# Altium footprint library stm32底盘_PCB_V1.0.PcbLib: 18 footprints (part 1 of 2)
Each footprint in its own frame and in the unit in brackets; x right, y up, seen from the top. Pads: shape width x height; smd on the part's side, far side on the other; paste and mask are expansions set on the pad; w line width, h text height; cw(c..) or ccw(c..) is an arc to the next point about the centre after c.
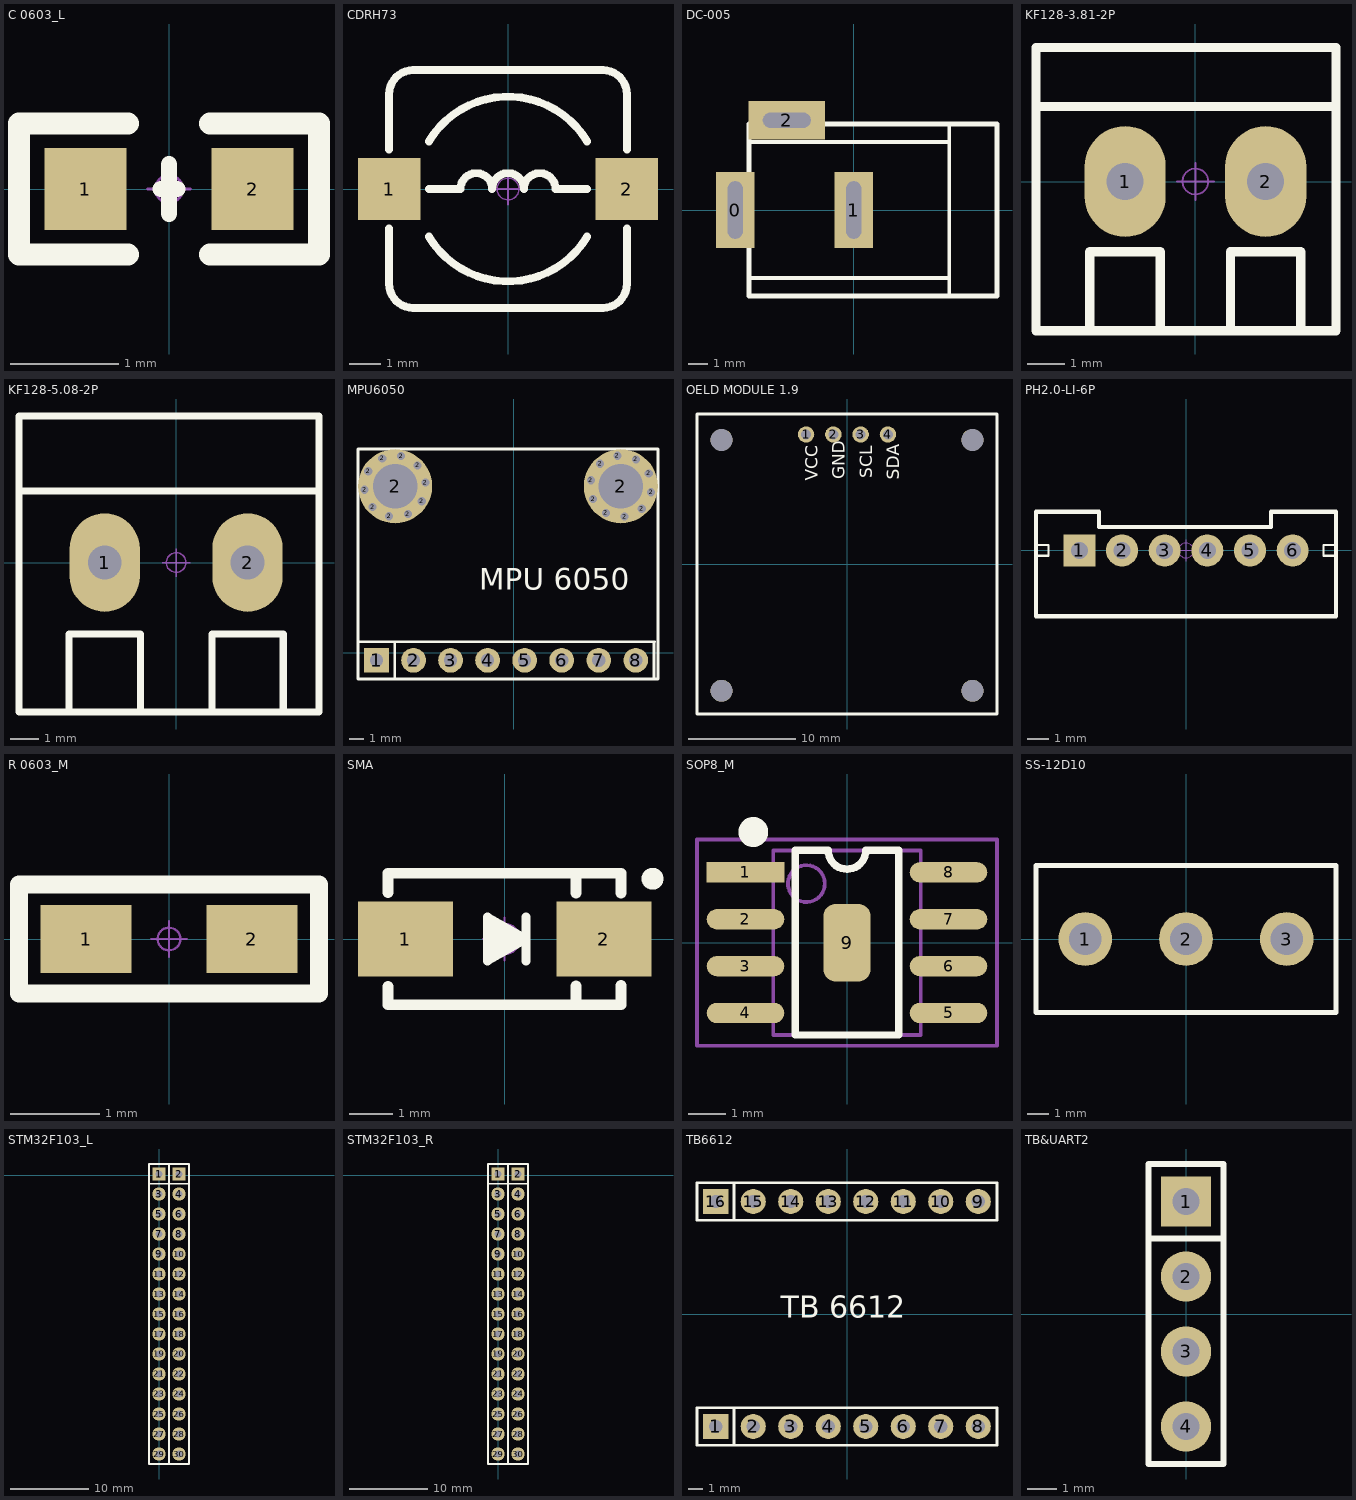
[diagram p0: the footprints below, top view; thin cyan lines are the x and y axes]

## C 0603_L [mil] "无极性贴片电容"
pads (2):
  rect 30x30 smd: 1(-30.59,0) 2(30.59,0)
Top Overlay:
  lines w6: -3,0 0,0 3,0 ; 0,-9 0,9
  lines w8: -15,-24 -54.82,-24 -54.82,24 -15,24 ; 15,-24 54.82,-24 54.82,24 15,24
Mechanical 15:
  circle w1: c0,0 r5
  lines w1: -7.87,0 7.87,0 ; 0,-7.87 0,7.87
3D body "C 0603.STEP": height 31.89, standoff -0.39, extent -31.5,-16.14 31.5,16.14

## CDRH73 [mm] "7.3*7.3*3.4mm（长宽高）"
pads (2):
  rect 2x2 smd: 1(-3.81,0) 2(3.81,0)
Top Overlay:
  lines w0.254: -3.81,-1.27 -3.81,-3.048 ccw(c-3.048,-3.048) -3.048,-3.81 3.048,-3.81 ccw(c3.048,-3.048) 3.81,-3.048 3.81,-1.27 ; -3.81,1.27 -3.81,3.048 cw(c-3.048,3.048) -3.048,3.81 3.048,3.81 cw(c3.048,3.048) 3.81,3.048 3.81,1.27 ; -2.54,-1.524 ccw(c0,0) 2.54,-1.524 ; -2.54,0 -1.524,0 cw(c-1.016,0) -0.508,0 cw(c0,0) 0.508,0 cw(c1.016,0) 1.524,0 2.54,0 ; -2.54,1.524 cw(c0,0) 2.54,1.524
Mechanical 15:
  circle w0.05: c0,0 r0.35
  lines w0.05: -0.5,0 0.5,0 ; 0,-0.5 0,0.5
3D body "CDRH73.STEP": height 3.65, standoff 0, extent -3.65,-3.65 3.65,3.65

## DC-005 [mm] "5.5*2.1mm，DC30V,2.5A"
pads (3):
  rect 2x4 hole 0.8 slot 3 at 90 deg: 0(-6.2,0) 1(0,0)
  rect 4x2 hole 0.8 slot 2.5 at 0 deg: 2(-3.5,4.7)
Top Overlay:
  lines w0.2: -5.484,-3.556 5,-3.556 ; -5.484,3.556 5,3.556 ; 5,-4.5 5,4.5
  lines w0.254: -5.484,-4.5 -5.484,4.5 7.5,4.5 7.5,-4.5 -5.484,-4.5
3D body "dc-005.STEP": height 11.2, standoff -3.8, extent -6.55,-4.5 7.5,4.8

## KF128-3.81-2P [mm] "螺钉式接线端子，脚距3.81mm"
pads (2):
  oval 2.2x3 hole 1: 1(-1.905,0) 2(1.905,0)
Top Overlay:
  lines w0.254: -4.318,2.032 3.81,2.032 ; -2.857,-4.039 -2.857,-1.905 -0.953,-1.905 -0.953,-4.039 ; 0.953,-4.039 0.953,-1.905 2.857,-1.905 2.857,-4.039 ; -4.318,-4.039 3.81,-4.039 3.81,3.632 -4.318,3.632 -4.318,-4.039
Mechanical 15:
  circle w0.05: c0,0 r0.35
  lines w0.05: -0.5,0 0.5,0 ; 0,-0.5 0,0.5
3D body "KF128.STEP": height 8.55, standoff -3.95, extent -4.31,-3.9 0,3.5
3D body "KF128.STEP": height 8.55, standoff -3.95, extent -0.5,-3.9 3.81,3.5

## KF128-5.08-2P [mm] "螺钉式接线端子，脚距5.08mm"
pads (2):
  oval 2.5x3.5 hole 1.2: 1(-2.54,0) 2(2.54,0)
Top Overlay:
  lines w0.254: -5.588,2.54 5.08,2.54 ; -3.81,-5.309 -3.81,-2.54 -1.27,-2.54 -1.27,-5.309 ; 1.27,-5.309 1.27,-2.54 3.81,-2.54 3.81,-5.309 ; -5.588,-5.309 5.08,-5.309 5.08,5.207 -5.588,5.207 -5.588,-5.309
Mechanical 15:
  circle w0.05: c0,0 r0.35
  lines w0.05: -0.5,0 0.5,0 ; 0,-0.5 0,0.5
3D body "KF128-5.08.STEP": height 14.15, standoff -3.95, extent -0.5,-5.3 5.08,5.2
3D body "KF128-5.08.STEP": height 14.15, standoff -3.95, extent -5.58,-5.3 0,5.2

## MPU6050 [mil] "排母，8脚"
pads (30):
  rect 66.93x66.93 hole 35.43: 1(-370,-20)
  round 23 hole 22: 2(-402.21,440.33) 2(-392.19,490.5) 2(-380.83,393.86) 2(-354.6,525.2) 2(-336.21,368.83) 2(-303.79,531.17) 2(-285.4,374.8) 2(-259.17,506.14) 2(-247.81,409.5) 2(-237.79,459.67) 2(208.83,466.21) 2(214.8,415.4) 2(233.86,510.83) 2(249.5,377.81) 2(280.33,532.21) 2(299.67,367.79) 2(330.5,522.19) 2(346.14,389.17) 2(365.2,484.6) 2(371.17,433.79)
  round 200 hole 120: 2(-320,450) 2(290,450)
  round 66.93 hole 35.43: 2(-270,-20) 3(-170,-20) 4(-70,-20) 5(30,-20) 6(130,-20) 7(230,-20) 8(330,-20)
Top Overlay:
  lines w7.87: -320.79,-69.21 -320.79,29.21 ; 379.21,-69.21 379.21,29.21 ; 380,-70 -420,-70 -420,30 380,30
  lines w8: -420,-70 -420,550 390,550 390,-70 -420,-70
  text "MPU 6050" at -92.42,150 h100
3D body "HDR2.54-1P_M.STEP": height 334.65, standoff -118.11, extent -20,-70 80,30
3D body "HDR2.54-1P_M.STEP": height 334.65, standoff -118.11, extent -120,-70 -20,30
3D body "HDR2.54-1P_M.STEP": height 334.65, standoff -118.11, extent -220,-70 -120,30
3D body "HDR2.54-1P_M.STEP": height 334.65, standoff -118.11, extent -320,-70 -220,30
3D body "HDR2.54-1P_M.STEP": height 334.65, standoff -118.11, extent -420,-70 -320,30
3D body "HDR2.54-1P_M.STEP": height 334.65, standoff -118.11, extent 280,-70 380,30
3D body "HDR2.54-1P_M.STEP": height 334.65, standoff -118.11, extent 180,-70 280,30
3D body "HDR2.54-1P_M.STEP": height 334.65, standoff -118.11, extent 80,-70 180,30

## OELD MODULE 1.9 [mil]
pads (8):
  round 60 hole 36: 1(-150,475) 2(-50,475) 3(50,475) 4(150,475)
  round 80 hole 80 unplated: ""(-460,-465) ""(-460,455) ""(460,-465) ""(460,455)
Top Overlay:
  lines w10: -550,-550 -550,550 550,550 550,-550 -550,-550
  text "SDA" at 192.5,309.1 h45
  text "SCL" at 92.5,315.2 h45
  text "GND" at -7.5,311.1 h45
  text "VCC" at -107.5,305 h45

## PH2.0-LI-6P [mm] "长：13.9mm，宽：4.7mm，高：6mm"
height 10
pads (6):
  rect 1.5x1.5 hole 0.8: 1(-5,0)
  round 1.5 hole 0.8: 2(-3,0) 3(-1,0) 4(1,0) 5(3,0) 6(5,0)
Top Overlay:
  lines w0.1: -7.032,-0.246 -6.452,-0.246 -6.452,0.254 -7.032,0.254 ; 7.032,-0.246 6.452,-0.246 6.452,0.254 7.032,0.254
  lines w0.2: -7.032,1.816 -7.032,-3.084 7.032,-3.084 7.032,1.816 ; -4.08,1.816 -4.08,1.1 3.984,1.1 3.984,1.816
  lines w0.203: -7.032,1.816 -4.08,1.816 ; 3.984,1.816 7.032,1.816
Mechanical 15:
  circle w0.05: c0,0 r0.35
  lines w0.05: -0.5,0 0.5,0 ; 0,-0.5 0,0.5
3D body "PH2.0-LI-6P.STEP": height 6.01, standoff -2.99, extent -6.95,-3 6.95,1.7

## R 0603_M [mil] "1/10W贴片电阻"
pads (2):
  rect 40x30 smd: 1(-36.5,0) 2(36.5,0)
Top Overlay:
  lines w8: -66,-24 -66,24 -18,24 66,24 66,-24 -18,-24 -66,-24
Mechanical 15:
  circle w1: c0,0 r5
  lines w1: -7.87,0 7.87,0 ; 0,-7.87 0,7.87
3D body "R 0603.STEP": height 15.79, standoff -0.13, extent -31.49,-15.74 31.5,15.75

## SMA [mm] "4.5x2.6*2.2mm（长宽高，不包括引脚）"
height 2.54
pads (2):
  rect 2.2x1.75 smd: 1(-2.3,0) 2(2.3,0)
Top Overlay:
  circle w0.254: c3.429,1.397 r0.127
  lines w0.203: 0.494,-0.508 0.494,0.508 ; -0.395,-0.508 0.494,0 -0.395,0.508 -0.395,-0.508
  lines w0.254: -2.7,-1.105 -2.7,-1.524 2.7,-1.524 2.7,-1.08 ; -2.7,1.08 -2.7,1.524 2.7,1.524 2.7,1.067 ; -0.33,0.305 0.305,0 -0.254,-0.305 -0.254,0.051 0.023,0 ; 1.651,-1.524 1.651,-1.092 ; 1.651,1.067 1.651,1.524
Mechanical 15:
  circle w0.05: c0,0 r0.35
  lines w0.05: -0.5,0 0.5,0 ; 0,-0.5 0,0.5
3D body "SMA.STEP": height 2.15, standoff 0.04, extent -2.528,-1.3 2.575,1.3

## SOP8_M [mm] "5*6*1.8mm（长宽高）"
height 1.75
pads (9):
  rect 2.1x0.55 smd: 1(-2.75,1.905)
  oval 2.1x0.55 smd: 2(-2.75,0.635) 3(-2.75,-0.635) 4(-2.75,-1.905) 5(2.75,-1.905) 6(2.75,-0.635) 7(2.75,0.635) 8(2.75,1.905)
  rrect50% 1.27x2.1 smd: 9(0,0)
Top Overlay:
  circle w0.5: c-2.54,3 r0.155
  lines w0.2: -1.397,2.5 -1.397,-2.5 1.397,-2.5 1.397,2.5
  lines w0.203: -1.397,2.5 -0.508,2.5 ccw(c0,2.5) 0,1.992 ccw(c0,2.5) 0.508,2.5 1.397,2.5
Mechanical 13:
  circle w0.1: c-1.1,1.6 r0.5
  lines w0.1: -2,-2.5 -2,2.5 2,2.5 2,-2.5 -2,-2.5
Mechanical 15:
  circle w0.05: c0,0 r0.35
  lines w0.05: -0.5,0 0.5,0 ; 0,-0.5 0,0.5
  lines w0.1: -4.064,-2.794 -4.064,2.794 4.064,2.794 4.064,-2.794 -4.064,-2.794
3D body "SOP8.STEP": height 1.9, standoff 0, extent -3.003,-2.5 3.003,2.5

## SS-12D10 [mm] "脚距3mm"
pads (3):
  round 2.5 hole 1.5: 1(-4.7,0) 2(0,0) 3(4.7,0)
Top Overlay:
  lines w0.254: -7,-3.429 -7,3.429 7,3.429 7,-3.429 -7,-3.429
Mechanical 15:
  circle w0.05: c0,0 r0.35
  lines w0.05: -0.5,0 0.5,0 ; 0,-0.5 0,0.5
3D body "SW-SLB12814.STEP": height 9.65, standoff -2.6, extent -7,-3.1 7,3.1

## STM32F103_L [mm]
pads (30):
  rect 1.7x1.7 hole 0.9: 1(0,0.127) 2(2.54,0.127)
  round 1.7 hole 0.9: 3(0,-2.413) 4(2.54,-2.413) 5(0,-4.953) 6(2.54,-4.953) 7(0,-7.493) 8(2.54,-7.493) 9(0,-10.033) 10(2.54,-10.033) 11(0,-12.573) 12(2.54,-12.573) 13(0,-15.113) 14(2.54,-15.113) 15(0,-17.653) 16(2.54,-17.653) 17(0,-20.193) 18(2.54,-20.193) 19(0,-22.733) 20(2.54,-22.733) 21(0,-25.273) 22(2.54,-25.273) 23(0,-27.813) 24(2.54,-27.813) 25(0,-30.353) 26(2.54,-30.353) 27(0,-32.893) 28(2.54,-32.893) 29(0,-35.433) 30(2.54,-35.433)
Top Overlay:
  lines w0.2: -1.25,-1.123 1.25,-1.123 ; 1.29,-1.123 3.79,-1.123 ; 1.27,-36.703 1.27,-0.508 1.27,1.397 ; 1.27,-36.703 -1.27,-36.703 -1.27,1.397 1.27,1.397 ; 1.27,-36.703 1.27,1.397 ; 1.27,-36.703 3.81,-36.703 3.81,-0.508 3.81,1.397 1.27,1.397
3D body "HDR2.54-1P_M.STEP": height 8.5, standoff -3, extent -1.27,-36.703 1.27,-34.163
3D body "HDR2.54-1P_M.STEP": height 8.5, standoff -3, extent -1.27,-34.163 1.27,-31.623
3D body "HDR2.54-1P_M.STEP": height 8.5, standoff -3, extent -1.27,-31.623 1.27,-29.083
3D body "HDR2.54-1P_M.STEP": height 8.5, standoff -3, extent -1.27,-29.083 1.27,-26.543
3D body "HDR2.54-1P_M.STEP": height 8.5, standoff -3, extent -1.27,-26.543 1.27,-24.003
3D body "HDR2.54-1P_M.STEP": height 8.5, standoff -3, extent -1.27,-24.003 1.27,-21.463
3D body "HDR2.54-1P_M.STEP": height 8.5, standoff -3, extent -1.27,-1.143 1.27,1.397
3D body "HDR2.54-1P_M.STEP": height 8.5, standoff -3, extent -1.27,-3.683 1.27,-1.143
3D body "HDR2.54-1P_M.STEP": height 8.5, standoff -3, extent -1.27,-6.223 1.27,-3.683
3D body "HDR2.54-1P_M.STEP": height 8.5, standoff -3, extent -1.27,-8.763 1.27,-6.223
3D body "HDR2.54-1P_M.STEP": height 8.5, standoff -3, extent -1.27,-11.303 1.27,-8.763
3D body "HDR2.54-1P_M.STEP": height 8.5, standoff -3, extent -1.27,-13.843 1.27,-11.303
3D body "HDR2.54-1P_M.STEP": height 8.5, standoff -3, extent -1.27,-16.383 1.27,-13.843
3D body "HDR2.54-1P_M.STEP": height 8.5, standoff -3, extent -1.27,-18.923 1.27,-16.383
3D body "HDR2.54-1P_M.STEP": height 8.5, standoff -3, extent -1.27,-21.463 1.27,-18.923
3D body "HDR2.54-1P_M.STEP": height 8.5, standoff -3, extent 1.27,-36.703 3.81,-34.163
3D body "HDR2.54-1P_M.STEP": height 8.5, standoff -3, extent 1.27,-34.163 3.81,-31.623
3D body "HDR2.54-1P_M.STEP": height 8.5, standoff -3, extent 1.27,-31.623 3.81,-29.083
3D body "HDR2.54-1P_M.STEP": height 8.5, standoff -3, extent 1.27,-29.083 3.81,-26.543
3D body "HDR2.54-1P_M.STEP": height 8.5, standoff -3, extent 1.27,-26.543 3.81,-24.003
3D body "HDR2.54-1P_M.STEP": height 8.5, standoff -3, extent 1.27,-24.003 3.81,-21.463
3D body "HDR2.54-1P_M.STEP": height 8.5, standoff -3, extent 1.27,-1.143 3.81,1.397
3D body "HDR2.54-1P_M.STEP": height 8.5, standoff -3, extent 1.27,-3.683 3.81,-1.143
3D body "HDR2.54-1P_M.STEP": height 8.5, standoff -3, extent 1.27,-6.223 3.81,-3.683
3D body "HDR2.54-1P_M.STEP": height 8.5, standoff -3, extent 1.27,-8.763 3.81,-6.223
3D body "HDR2.54-1P_M.STEP": height 8.5, standoff -3, extent 1.27,-11.303 3.81,-8.763
3D body "HDR2.54-1P_M.STEP": height 8.5, standoff -3, extent 1.27,-13.843 3.81,-11.303
3D body "HDR2.54-1P_M.STEP": height 8.5, standoff -3, extent 1.27,-16.383 3.81,-13.843
3D body "HDR2.54-1P_M.STEP": height 8.5, standoff -3, extent 1.27,-18.923 3.81,-16.383
3D body "HDR2.54-1P_M.STEP": height 8.5, standoff -3, extent 1.27,-21.463 3.81,-18.923

## STM32F103_R [mm]
pads (30):
  rect 1.7x1.7 hole 0.9: 1(0,0.127) 2(2.54,0.127)
  round 1.7 hole 0.9: 3(0,-2.413) 4(2.54,-2.413) 5(0,-4.953) 6(2.54,-4.953) 7(0,-7.493) 8(2.54,-7.493) 9(0,-10.033) 10(2.54,-10.033) 11(0,-12.573) 12(2.54,-12.573) 13(0,-15.113) 14(2.54,-15.113) 15(0,-17.653) 16(2.54,-17.653) 17(0,-20.193) 18(2.54,-20.193) 19(0,-22.733) 20(2.54,-22.733) 21(0,-25.273) 22(2.54,-25.273) 23(0,-27.813) 24(2.54,-27.813) 25(0,-30.353) 26(2.54,-30.353) 27(0,-32.893) 28(2.54,-32.893) 29(0,-35.433) 30(2.54,-35.433)
Top Overlay:
  lines w0.2: -1.25,-1.123 1.25,-1.123 ; 1.29,-1.123 3.79,-1.123 ; 1.27,-36.703 1.27,-0.508 1.27,1.397 ; 1.27,-36.703 -1.27,-36.703 -1.27,1.397 1.27,1.397 ; 1.27,-36.703 1.27,1.397 ; 1.27,-36.703 3.81,-36.703 3.81,-0.508 3.81,1.397 1.27,1.397
3D body "HDR2.54-1P_M.STEP": height 8.5, standoff -3, extent -1.27,-36.703 1.27,-34.163
3D body "HDR2.54-1P_M.STEP": height 8.5, standoff -3, extent -1.27,-34.163 1.27,-31.623
3D body "HDR2.54-1P_M.STEP": height 8.5, standoff -3, extent -1.27,-31.623 1.27,-29.083
3D body "HDR2.54-1P_M.STEP": height 8.5, standoff -3, extent -1.27,-29.083 1.27,-26.543
3D body "HDR2.54-1P_M.STEP": height 8.5, standoff -3, extent -1.27,-26.543 1.27,-24.003
3D body "HDR2.54-1P_M.STEP": height 8.5, standoff -3, extent -1.27,-24.003 1.27,-21.463
3D body "HDR2.54-1P_M.STEP": height 8.5, standoff -3, extent -1.27,-1.143 1.27,1.397
3D body "HDR2.54-1P_M.STEP": height 8.5, standoff -3, extent -1.27,-3.683 1.27,-1.143
3D body "HDR2.54-1P_M.STEP": height 8.5, standoff -3, extent -1.27,-6.223 1.27,-3.683
3D body "HDR2.54-1P_M.STEP": height 8.5, standoff -3, extent -1.27,-8.763 1.27,-6.223
3D body "HDR2.54-1P_M.STEP": height 8.5, standoff -3, extent -1.27,-11.303 1.27,-8.763
3D body "HDR2.54-1P_M.STEP": height 8.5, standoff -3, extent -1.27,-13.843 1.27,-11.303
3D body "HDR2.54-1P_M.STEP": height 8.5, standoff -3, extent -1.27,-16.383 1.27,-13.843
3D body "HDR2.54-1P_M.STEP": height 8.5, standoff -3, extent -1.27,-18.923 1.27,-16.383
3D body "HDR2.54-1P_M.STEP": height 8.5, standoff -3, extent -1.27,-21.463 1.27,-18.923
3D body "HDR2.54-1P_M.STEP": height 8.5, standoff -3, extent 1.27,-36.703 3.81,-34.163
3D body "HDR2.54-1P_M.STEP": height 8.5, standoff -3, extent 1.27,-34.163 3.81,-31.623
3D body "HDR2.54-1P_M.STEP": height 8.5, standoff -3, extent 1.27,-31.623 3.81,-29.083
3D body "HDR2.54-1P_M.STEP": height 8.5, standoff -3, extent 1.27,-29.083 3.81,-26.543
3D body "HDR2.54-1P_M.STEP": height 8.5, standoff -3, extent 1.27,-26.543 3.81,-24.003
3D body "HDR2.54-1P_M.STEP": height 8.5, standoff -3, extent 1.27,-24.003 3.81,-21.463
3D body "HDR2.54-1P_M.STEP": height 8.5, standoff -3, extent 1.27,-1.143 3.81,1.397
3D body "HDR2.54-1P_M.STEP": height 8.5, standoff -3, extent 1.27,-3.683 3.81,-1.143
3D body "HDR2.54-1P_M.STEP": height 8.5, standoff -3, extent 1.27,-6.223 3.81,-3.683
3D body "HDR2.54-1P_M.STEP": height 8.5, standoff -3, extent 1.27,-8.763 3.81,-6.223
3D body "HDR2.54-1P_M.STEP": height 8.5, standoff -3, extent 1.27,-11.303 3.81,-8.763
3D body "HDR2.54-1P_M.STEP": height 8.5, standoff -3, extent 1.27,-13.843 3.81,-11.303
3D body "HDR2.54-1P_M.STEP": height 8.5, standoff -3, extent 1.27,-16.383 3.81,-13.843
3D body "HDR2.54-1P_M.STEP": height 8.5, standoff -3, extent 1.27,-18.923 3.81,-16.383
3D body "HDR2.54-1P_M.STEP": height 8.5, standoff -3, extent 1.27,-21.463 3.81,-18.923

## TB6612 [mm] "排母，20脚"
pads (16):
  rect 1.7x1.7 hole 0.9: 1(-8.89,-7.62) 16(-8.89,7.62)
  round 1.7 hole 0.9: 2(-6.35,-7.62) 3(-3.81,-7.62) 4(-1.27,-7.62) 5(1.27,-7.62) 6(3.81,-7.62) 7(6.35,-7.62) 8(8.89,-7.62) 9(8.89,7.62) 10(6.35,7.62) 11(3.81,7.62) 12(1.27,7.62) 13(-1.27,7.62) 14(-3.81,7.62) 15(-6.35,7.62)
Top Overlay:
  lines w0.2: -7.64,-8.87 -7.64,-6.37 ; -7.64,6.37 -7.64,8.87 ; -10.16,-8.89 10.16,-8.89 10.16,-6.35 -10.16,-6.35 -10.16,-8.89 ; -10.16,6.35 10.16,6.35 10.16,8.89 -10.16,8.89 -10.16,6.35
  text "TB 6612" at -4.483,-0.762 h2.54
Mechanical 1:
  text "g" at 7.308,-8.509 h2.54
3D body "HDR2.54-1P_M.STEP": height 8.5, standoff -3, extent 2.54,-8.89 5.08,-6.35
3D body "HDR2.54-1P_M.STEP": height 8.5, standoff -3, extent 5.08,-8.89 7.62,-6.35
3D body "HDR2.54-1P_M.STEP": height 8.5, standoff -3, extent 7.62,-8.89 10.16,-6.35
3D body "HDR2.54-1P_M.STEP": height 8.5, standoff -3, extent -10.16,-8.89 -7.62,-6.35
3D body "HDR2.54-1P_M.STEP": height 8.5, standoff -3, extent -7.62,-8.89 -5.08,-6.35
3D body "HDR2.54-1P_M.STEP": height 8.5, standoff -3, extent -5.08,-8.89 -2.54,-6.35
3D body "HDR2.54-1P_M.STEP": height 8.5, standoff -3, extent -2.54,-8.89 0,-6.35
3D body "HDR2.54-1P_M.STEP": height 8.5, standoff -3, extent 0,-8.89 2.54,-6.35
3D body "HDR2.54-1P_M.STEP": height 8.5, standoff -3, extent 2.54,6.35 5.08,8.89
3D body "HDR2.54-1P_M.STEP": height 8.5, standoff -3, extent 5.08,6.35 7.62,8.89
3D body "HDR2.54-1P_M.STEP": height 8.5, standoff -3, extent 7.62,6.35 10.16,8.89
3D body "HDR2.54-1P_M.STEP": height 8.5, standoff -3, extent -10.16,6.35 -7.62,8.89
3D body "HDR2.54-1P_M.STEP": height 8.5, standoff -3, extent -7.62,6.35 -5.08,8.89
3D body "HDR2.54-1P_M.STEP": height 8.5, standoff -3, extent -5.08,6.35 -2.54,8.89
3D body "HDR2.54-1P_M.STEP": height 8.5, standoff -3, extent -2.54,6.35 0,8.89
3D body "HDR2.54-1P_M.STEP": height 8.5, standoff -3, extent 0,6.35 2.54,8.89

## TB&UART2 [mm] "排母，20脚"
pads (4):
  rect 1.7x1.7 hole 0.9: 1(0,3.81)
  round 1.7 hole 0.9: 2(0,1.27) 3(0,-1.27) 4(0,-3.81)
Top Overlay:
  lines w0.2: -1.27,5.08 1.27,5.08 ; -1.25,2.56 1.25,2.56
  lines w0.203: -1.27,5.08 -1.27,-5.08 1.27,-5.08 1.27,5.08
3D body "HDR2.54-1P_M.STEP": height 8.5, standoff -3, extent -1.27,-5.08 1.27,-2.54
3D body "HDR2.54-1P_M.STEP": height 8.5, standoff -3, extent -1.27,-2.54 1.27,0
3D body "HDR2.54-1P_M.STEP": height 8.5, standoff -3, extent -1.27,0 1.27,2.54
3D body "HDR2.54-1P_M.STEP": height 8.5, standoff -3, extent -1.27,2.54 1.27,5.08